# EAGLE library part CA-IS3762 (library misc)
Digital Isolator 3750Vrms Forward 4 Channel Reverse 2 Channel 150Mbps 100kV/us CMTI SOIC-16
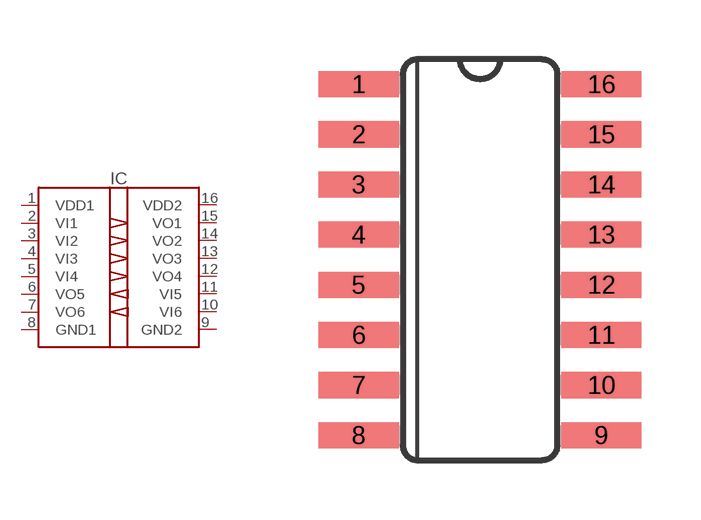
[diagram p100: symbol with the pads of SOIC16; footprint SOIC16]

Designator prefix IC

## CA-IS3762 (LCSC#: C428893; MANF: Chipanalog; MANF#: CA-IS3762HN)  [SOIC16]
1  VDD1
2  VI1
3  VI2
4  VI3
5  VI4
6  VO5
7  VO6
8  GND1
9  GND2
10  VI6
11  VI5
12  VO4
13  VO3
14  VO2
15  VO1
16  VDD2

## Footprint SOIC16 (pad centres in mm)
3D model <http://grabcad.com/library/106x-soic-packages-small-outline-integrated-circuit-1/details?folder_id=13776991>
smd 2.032 x 0.66: 1 -3.073,4.445; 2 -3.073,3.175; 3 -3.073,1.905; 4 -3.073,0.635; 5 -3.073,-0.635; 6 -3.073,-1.905; 7 -3.073,-3.175; 8 -3.073,-4.445; 9 3.073,-4.445; 10 3.073,-3.175; 11 3.073,-1.905; 12 3.073,-0.635; 13 3.073,0.635; 14 3.073,1.905; 15 3.073,3.175; 16 3.073,4.445